# Altium footprint library VQFN-16.PcbLib: 1 footprints
Each footprint in its own frame and in the unit in brackets; x right, y up, seen from the top. Pads: shape width x height; smd on the part's side, far side on the other; paste and mask are expansions set on the pad; w line width, h text height; cw(c..) or ccw(c..) is an arc to the next point about the centre after c.
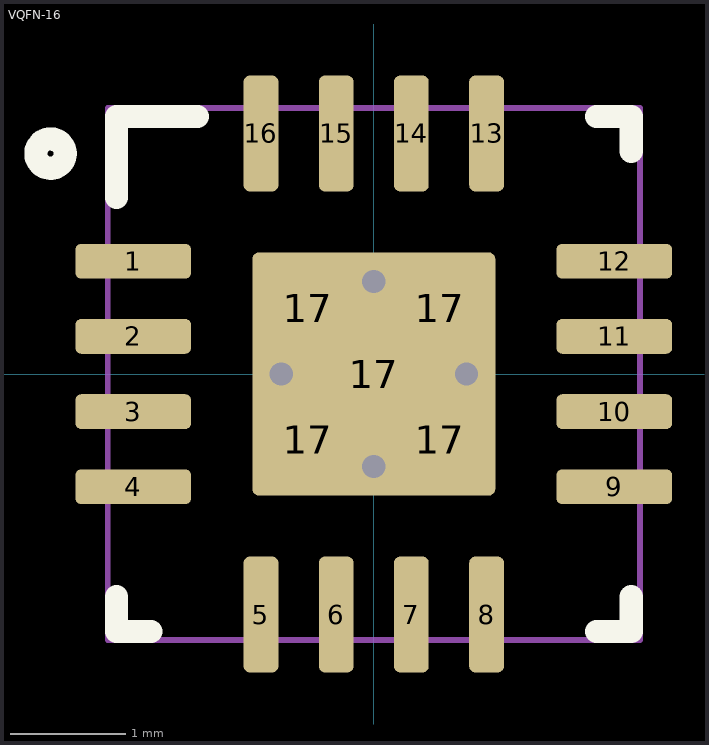
[diagram p0: the footprint, top view; thin cyan lines are the x and y axes]

## VQFN-16 [mm]
pads (21):
  rrect33% 1x0.3 smd: 1(-2.079,0.975) 2(-2.079,0.325) 3(-2.079,-0.325) 4(-2.079,-0.975) 9(2.079,-0.975) 10(2.079,-0.325) 11(2.079,0.325) 12(2.079,0.975)
  rrect33% 0.3x1 smd: 5(-0.975,-2.079) 6(-0.325,-2.079) 7(0.325,-2.079) 8(0.975,-2.079) 13(0.975,2.079) 14(0.325,2.079) 15(-0.325,2.079) 16(-0.975,2.079)
  rrect11% 0.939x0.939 on Top Paste: 17(-0.57,-0.57) 17(-0.57,0.57) 17(0.57,-0.57) 17(0.57,0.57)
  rrect5% 2.1x2.1 smd paste-1.08: 17(0,0)
via 0.8,0 diameter 0.5 hole 0.2
via -0.8,0 diameter 0.5 hole 0.2
via 0,-0.8 diameter 0.5 hole 0.2
via 0,0.8 diameter 0.5 hole 0.2
Top Overlay:
  circle w0.2: c-2.794,1.905 r0.127
  lines w0.2: -2.225,-1.925 -2.225,-2.225 -1.925,-2.225 ; -2.225,1.525 -2.225,2.225 -1.525,2.225 ; 1.925,-2.225 2.225,-2.225 2.225,-1.925 ; 1.925,2.225 2.225,2.225 2.225,1.925
Mechanical 15:
  lines w0.05: -2.3,-2.3 -2.3,2.3 2.3,2.3 2.3,-2.3 -2.3,-2.3
  lines w0.1: -0.5,0 0.5,0 ; 0,-0.5 0,0.5
3D body "VQFN-16.step": height 0.92, standoff 0, extent -2,-2 2,2